# Altium footprint library SON50P300X200X100-9N-D.PcbLib: 1 footprints
Each footprint in its own frame and in the unit in brackets; x right, y up, seen from the top. Pads: shape width x height; smd on the part's side, far side on the other; paste and mask are expansions set on the pad; w line width, h text height; cw(c..) or ccw(c..) is an arc to the next point about the centre after c.
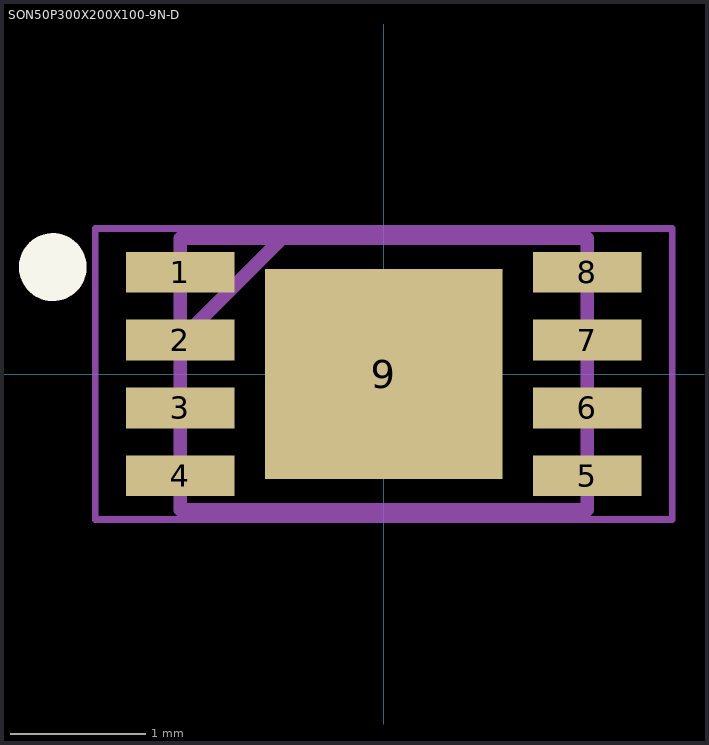
[diagram p0: the footprint, top view; thin cyan lines are the x and y axes]

## SON50P300X200X100-9N-D [mm]
pads (9):
  rect 0.8x0.3 smd: 1(-1.5,0.75) 2(-1.5,0.25) 3(-1.5,-0.25) 4(-1.5,-0.75) 5(1.5,-0.75) 6(1.5,-0.25) 7(1.5,0.25) 8(1.5,0.75)
  rect 1.75x1.55 smd: 9(0,0)
Top Overlay:
  circle w0.25: c-2.438,0.787 r0.125
Mechanical 15:
  lines w0.1: -1.5,0.25 -0.75,1 ; -1.5,-1 -1.5,1 1.5,1 1.5,-1 -1.5,-1
Mechanical 20:
  lines w0.05: -2.125,-1.072 -1.062,-1.072 1.062,-1.072 2.125,-1.072 ; -2.125,-1.067 -2.125,1.067 ; -2.125,1.072 -1.062,1.072 1.062,1.072 2.125,1.072 ; 2.125,-1.067 2.125,1.067
3D body "DFN-6 2x3 Pad.step": height 1, standoff 0, extent -1.525,-1 1.525,1